# Altium footprint library Sensor's & Driver's.PcbLib: 17 footprints (part 1 of 2)
Each footprint in its own frame and in the unit in brackets; x right, y up, seen from the top. Pads: shape width x height; smd on the part's side, far side on the other; paste and mask are expansions set on the pad; w line width, h text height; cw(c..) or ccw(c..) is an arc to the next point about the centre after c.
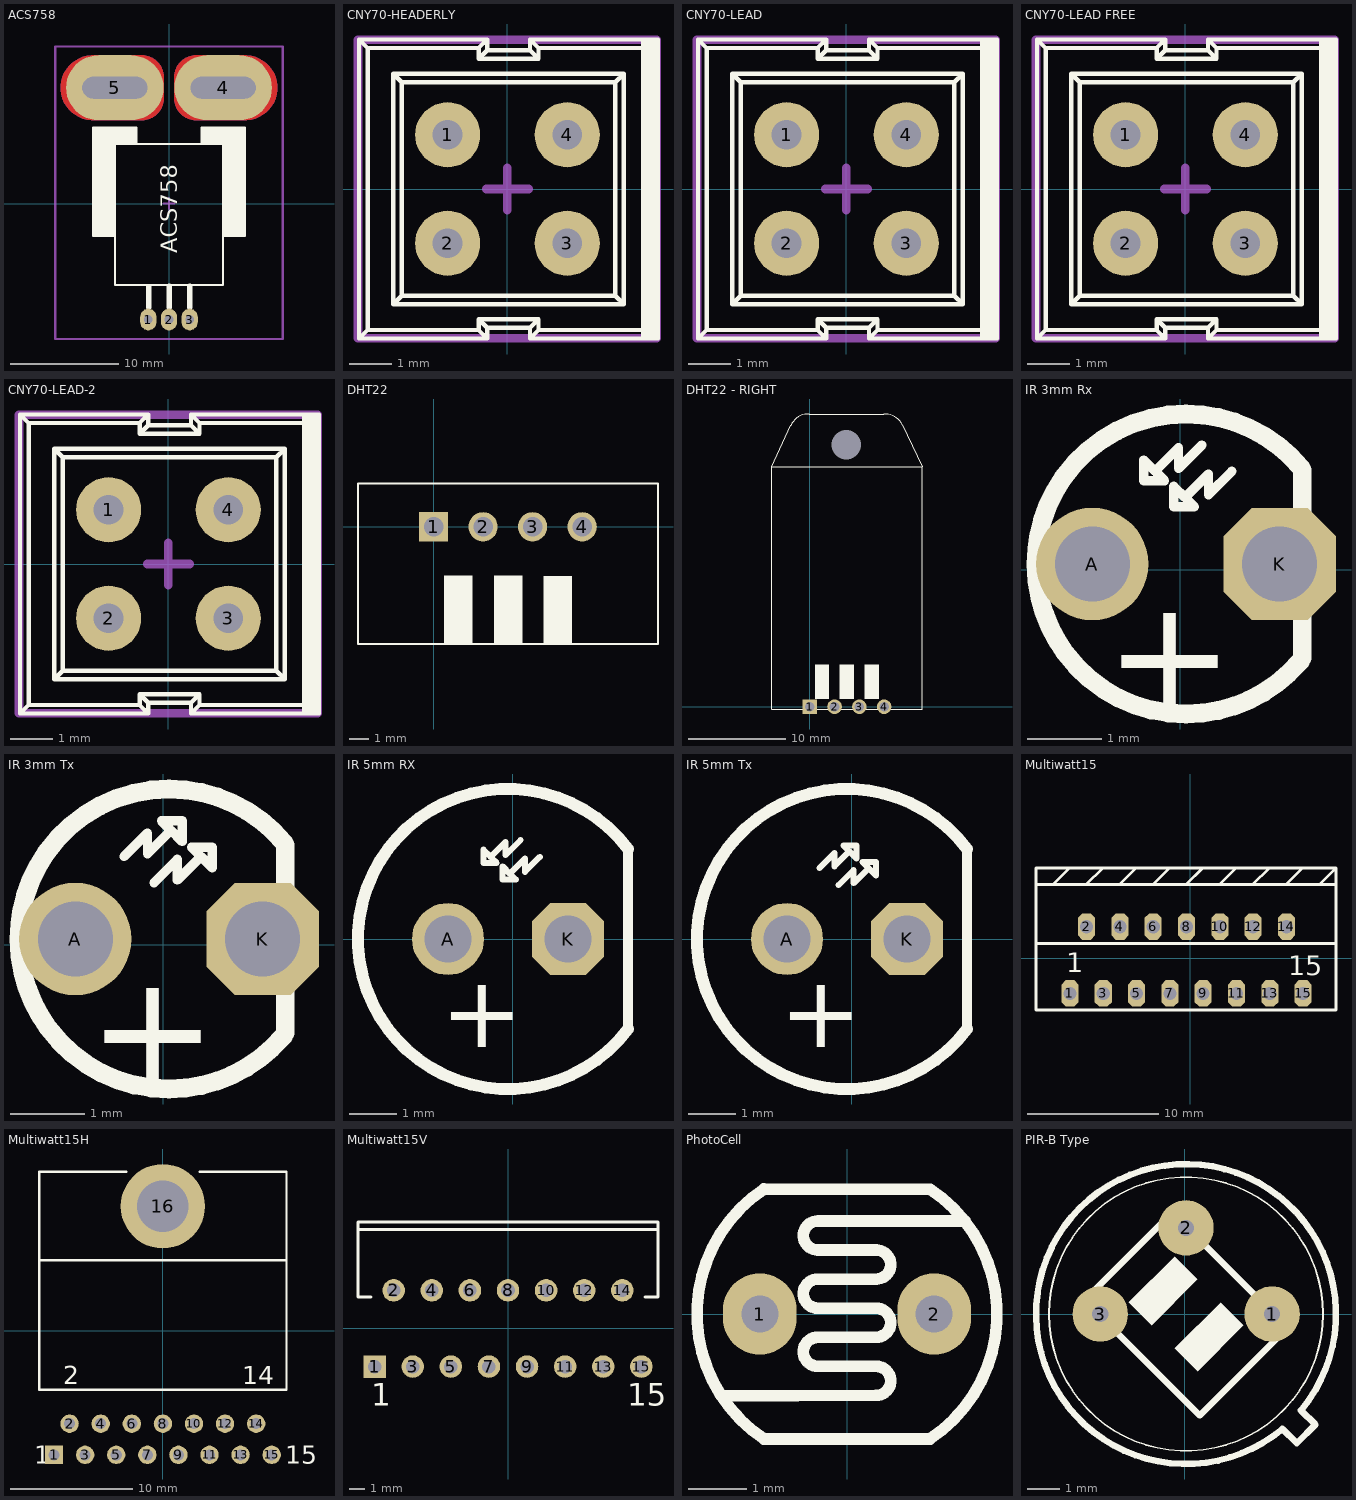
[diagram p0: the footprints below, top view; thin cyan lines are the x and y axes]

## ACS758 [mm]
height 7
pads (5):
  oval 1.5x2 hole 0.8: 1(-1.91,-10.7) 2(0,-10.7) 3(1.91,-10.7)
  oval 9x6 hole 2 slot 6 at 0 deg: 4(5,10.7) 5(-5,10.7)
Top Layer:
  region: -7,13.7 -7.197,13.7 -7.587,13.649 -7.966,13.547 -8.33,13.396 -8.67,13.2 -8.982,12.96 -9.26,12.682 -9.5,12.37 -9.696,12.03 -9.847,11.666 -9.949,11.287 -10,10.897 -10,10.7 -10,10.503 -9.949,10.113 -9.847,9.734 -9.696,9.37 -9.5,9.03 -9.26,8.718 -8.982,8.44 -8.67,8.2 -8.33,8.004 -7.966,7.853 -7.587,7.751 -7.197,7.7 -7,7.7 -2.5,7.7 -2.303,7.7 -1.917,7.777 -1.553,7.928 -1.225,8.146 -0.946,8.425 -0.728,8.753 -0.577,9.117 -0.5,9.503 -0.5,9.7 -0.5,11.7 -0.5,11.897 -0.577,12.283 -0.728,12.647 -0.946,12.975 -1.225,13.254 -1.553,13.472 -1.917,13.623 -2.303,13.7 -2.5,13.7
  region: 7,13.7 7.197,13.7 7.587,13.649 7.966,13.547 8.33,13.396 8.67,13.2 8.982,12.96 9.26,12.682 9.5,12.37 9.696,12.03 9.847,11.666 9.949,11.287 10,10.897 10,10.7 10,10.503 9.949,10.113 9.847,9.734 9.696,9.37 9.5,9.03 9.26,8.718 8.982,8.44 8.67,8.2 8.33,8.004 7.966,7.853 7.587,7.751 7.197,7.7 7,7.7 2.5,7.7 2.303,7.7 1.917,7.777 1.553,7.928 1.225,8.146 0.946,8.425 0.728,8.753 0.577,9.117 0.5,9.503 0.5,9.7 0.5,11.7 0.5,11.897 0.577,12.283 0.728,12.647 0.946,12.975 1.225,13.254 1.553,13.472 1.917,13.623 2.303,13.7 2.5,13.7
Bottom Layer:
  region: -7,13.7 -7.197,13.7 -7.587,13.649 -7.966,13.547 -8.33,13.396 -8.67,13.2 -8.982,12.96 -9.26,12.682 -9.5,12.37 -9.696,12.03 -9.847,11.666 -9.949,11.287 -10,10.897 -10,10.7 -10,10.503 -9.949,10.113 -9.847,9.734 -9.696,9.37 -9.5,9.03 -9.26,8.718 -8.982,8.44 -8.67,8.2 -8.33,8.004 -7.966,7.853 -7.587,7.751 -7.197,7.7 -7,7.7 -2.5,7.7 -2.303,7.7 -1.917,7.777 -1.553,7.928 -1.225,8.146 -0.946,8.425 -0.728,8.753 -0.577,9.117 -0.5,9.503 -0.5,9.7 -0.5,11.7 -0.5,11.897 -0.577,12.283 -0.728,12.647 -0.946,12.975 -1.225,13.254 -1.553,13.472 -1.917,13.623 -2.303,13.7 -2.5,13.7
  region: 7,13.7 7.197,13.7 7.587,13.649 7.966,13.547 8.33,13.396 8.67,13.2 8.982,12.96 9.26,12.682 9.5,12.37 9.696,12.03 9.847,11.666 9.949,11.287 10,10.897 10,10.7 10,10.503 9.949,10.113 9.847,9.734 9.696,9.37 9.5,9.03 9.26,8.718 8.982,8.44 8.67,8.2 8.33,8.004 7.966,7.853 7.587,7.751 7.197,7.7 7,7.7 2.5,7.7 2.303,7.7 1.917,7.777 1.553,7.928 1.225,8.146 0.946,8.425 0.728,8.753 0.577,9.117 0.5,9.503 0.5,9.7 0.5,11.7 0.5,11.897 0.577,12.283 0.728,12.647 0.946,12.975 1.225,13.254 1.553,13.472 1.917,13.623 2.303,13.7 2.5,13.7
Top Overlay:
  rectangle: 3,5.588 7,7.112
  rectangle: 5,-3 7,5.588
  region: -5,5.588 -7,5.588 -7,-3 -5,-3
  region: -3,7.112 -7,7.112 -7,5.588 -3,5.588
  lines w0.2: -7,7 -7,-3 -5,-3 ; -3,5.5 -3,7 ; 3,5.5 3,7 ; 5,-3 7,-3 7,7 ; -5,-7.5 5,-7.5 5,5.5 -5,5.5 -5,-7.5
  lines w0.508: -1.892,-9.575 -1.892,-7.677 ; 0.013,-9.55 0.013,-7.652 ; 1.893,-9.55 1.893,-7.652
  text "ACS758" at 0.762,-4.572 h1.52
Mechanical 15:
  lines w0.2: -0.5,0 0.5,0 ; 0,-0.5 0,0.5 ; -10.5,-12.5 -10.5,14.5 10.5,14.5 10.5,-12.5 -10.5,-12.5
3D body "Allegro PFF.STEP": height 7, standoff -3.52, extent -7,-11.086 7,11.5

## CNY70-HEADERLY [mm] "Dimensions (L x W x H in mm): 7 x 7 x 6  • Peak operating distance: < 0.5 mm DESIGNER ABBAS BASEREH"
height 6
pads (4):
  round 1.524 hole 0.7: 1(-1.4,1.27) 2(-1.4,-1.27) 3(1.4,-1.27) 4(1.4,1.27)
Top Overlay:
  rectangle: 3.125,-3.5 3.525,3.5
  lines w0.1: -3.475,-3.5 -0.475,-3.5 ; -3.475,-3.5 -3.275,-3.3 ; -3.475,-3.5 -3.475,3.5 ; -3.475,3.5 -3.275,3.3 ; -3.475,3.5 -0.475,3.5 ; -3.275,-3.3 -0.675,-3.3 ; -3.275,-3.3 -3.275,3.3 ; -3.275,3.3 -0.675,3.3 ; -2.675,-2.7 -2.475,-2.5 ; -2.675,-2.7 -2.675,2.7 ; -2.675,-2.7 2.725,-2.7 ; -2.675,2.7 -2.475,2.5 ; -2.675,2.7 2.725,2.7 ; -2.475,-2.5 -2.475,2.5 ; -2.475,-2.5 2.525,-2.5 ; -2.475,2.5 2.525,2.5 ; -0.675,-3.3 -0.675,-3.05 ; -0.675,-3.3 -0.475,-3.5 ; -0.675,-3.05 0.725,-3.05 ; -0.675,-3.05 -0.475,-3.25 ; -0.675,3.05 0.725,3.05 ; -0.675,3.05 -0.675,3.3 ; -0.675,3.05 -0.475,3.25 ; -0.675,3.3 -0.475,3.5 ; -0.475,-3.5 -0.475,-3.25 ; -0.475,-3.25 0.525,-3.25 ; -0.475,3.25 0.525,3.25 ; -0.475,3.25 -0.475,3.5 ; 0.525,-3.5 3.525,-3.5 ; 0.525,-3.5 0.725,-3.3 ; 0.525,-3.5 0.525,-3.25 ; 0.525,-3.25 0.725,-3.05 ; 0.525,3.25 0.725,3.05 ; 0.525,3.25 0.525,3.5 ; 0.525,3.5 0.725,3.3 ; 0.525,3.5 3.525,3.5 ; 0.725,-3.3 3.325,-3.3 ; 0.725,-3.3 0.725,-3.05 ; 0.725,3.05 0.725,3.3 ; 0.725,3.3 3.325,3.3 ; 2.525,-2.5 2.725,-2.7 ; 2.525,-2.5 2.525,2.5 ; 2.525,2.5 2.725,2.7 ; 2.725,-2.7 2.725,2.7 ; 3.325,-3.3 3.525,-3.5 ; 3.325,-3.3 3.325,3.3 ; 3.325,3.3 3.525,3.5 ; 3.525,-3.5 3.525,3.5
Mechanical 15:
  lines w0.2: -0.5,0 0.5,0 ; 0,-0.5 0,0.5 ; -3.5,-3.5 -3.5,3.5 3.5,3.5 3.5,-3.5 -3.5,-3.5
3D body "User Library-cny70-2.STEP": height 11.5, standoff -2.5, extent -3.55,-3.5 3.45,3.5

## CNY70-LEAD [mm] "Dimensions (L x W x H in mm): 7 x 7 x 6  • Peak operating distance: < 0.5 mm DESIGNER ABBAS BASEREH"
height 6
pads (4):
  round 1.524 hole 0.7: 1(-1.4,1.27) 2(-1.4,-1.27) 3(1.4,-1.27) 4(1.4,1.27)
Top Overlay:
  rectangle: 3.125,-3.5 3.525,3.5
  lines w0.1: -3.475,-3.5 -3.475,3.5 ; -3.475,-3.5 -3.275,-3.3 ; -3.475,-3.5 -0.475,-3.5 ; -3.475,3.5 -0.475,3.5 ; -3.475,3.5 -3.275,3.3 ; -3.275,-3.3 -3.275,3.3 ; -3.275,-3.3 -0.675,-3.3 ; -3.275,3.3 -0.675,3.3 ; -2.675,-2.7 2.725,-2.7 ; -2.675,-2.7 -2.675,2.7 ; -2.675,-2.7 -2.475,-2.5 ; -2.675,2.7 2.725,2.7 ; -2.675,2.7 -2.475,2.5 ; -2.475,-2.5 2.525,-2.5 ; -2.475,-2.5 -2.475,2.5 ; -2.475,2.5 2.525,2.5 ; -0.675,-3.3 -0.475,-3.5 ; -0.675,-3.3 -0.675,-3.05 ; -0.675,-3.05 -0.475,-3.25 ; -0.675,-3.05 0.725,-3.05 ; -0.675,3.05 -0.475,3.25 ; -0.675,3.05 -0.675,3.3 ; -0.675,3.05 0.725,3.05 ; -0.675,3.3 -0.475,3.5 ; -0.475,-3.5 -0.475,-3.25 ; -0.475,-3.25 0.525,-3.25 ; -0.475,3.25 -0.475,3.5 ; -0.475,3.25 0.525,3.25 ; 0.525,-3.5 0.525,-3.25 ; 0.525,-3.5 0.725,-3.3 ; 0.525,-3.5 3.525,-3.5 ; 0.525,-3.25 0.725,-3.05 ; 0.525,3.25 0.525,3.5 ; 0.525,3.25 0.725,3.05 ; 0.525,3.5 3.525,3.5 ; 0.525,3.5 0.725,3.3 ; 0.725,-3.3 0.725,-3.05 ; 0.725,-3.3 3.325,-3.3 ; 0.725,3.05 0.725,3.3 ; 0.725,3.3 3.325,3.3 ; 2.525,-2.5 2.525,2.5 ; 2.525,-2.5 2.725,-2.7 ; 2.525,2.5 2.725,2.7 ; 2.725,-2.7 2.725,2.7 ; 3.325,-3.3 3.325,3.3 ; 3.325,-3.3 3.525,-3.5 ; 3.325,3.3 3.525,3.5 ; 3.525,-3.5 3.525,3.5
Mechanical 15:
  lines w0.2: -0.5,0 0.5,0 ; 0,-0.5 0,0.5 ; -3.5,-3.5 3.5,-3.5 3.5,3.5 -3.5,3.5 -3.5,-3.5
3D body "SW3dPS-cny70-1.STEP": height 6.5, standoff -5.25, extent -3.5,-3.5 3.5,3.5

## CNY70-LEAD FREE [mm] "Dimensions (L x W x H in mm): 7 x 7 x 6  • Peak operating distance: < 0.5 mm DESIGNER ABBAS BASEREH"
height 6
pads (4):
  round 1.524 hole 0.7: 1(-1.4,1.27) 2(-1.4,-1.27) 3(1.4,-1.27) 4(1.4,1.27)
Top Overlay:
  rectangle: 3.125,-3.5 3.525,3.5
  lines w0.1: -3.475,-3.5 -0.475,-3.5 ; -3.475,-3.5 -3.275,-3.3 ; -3.475,-3.5 -3.475,3.5 ; -3.475,3.5 -3.275,3.3 ; -3.475,3.5 -0.475,3.5 ; -3.275,-3.3 -0.675,-3.3 ; -3.275,-3.3 -3.275,3.3 ; -3.275,3.3 -0.675,3.3 ; -2.675,-2.7 -2.475,-2.5 ; -2.675,-2.7 -2.675,2.7 ; -2.675,-2.7 2.725,-2.7 ; -2.675,2.7 -2.475,2.5 ; -2.675,2.7 2.725,2.7 ; -2.475,-2.5 -2.475,2.5 ; -2.475,-2.5 2.525,-2.5 ; -2.475,2.5 2.525,2.5 ; -0.675,-3.3 -0.675,-3.05 ; -0.675,-3.3 -0.475,-3.5 ; -0.675,-3.05 0.725,-3.05 ; -0.675,-3.05 -0.475,-3.25 ; -0.675,3.05 0.725,3.05 ; -0.675,3.05 -0.675,3.3 ; -0.675,3.05 -0.475,3.25 ; -0.675,3.3 -0.475,3.5 ; -0.475,-3.5 -0.475,-3.25 ; -0.475,-3.25 0.525,-3.25 ; -0.475,3.25 0.525,3.25 ; -0.475,3.25 -0.475,3.5 ; 0.525,-3.5 3.525,-3.5 ; 0.525,-3.5 0.725,-3.3 ; 0.525,-3.5 0.525,-3.25 ; 0.525,-3.25 0.725,-3.05 ; 0.525,3.25 0.725,3.05 ; 0.525,3.25 0.525,3.5 ; 0.525,3.5 0.725,3.3 ; 0.525,3.5 3.525,3.5 ; 0.725,-3.3 3.325,-3.3 ; 0.725,-3.3 0.725,-3.05 ; 0.725,3.05 0.725,3.3 ; 0.725,3.3 3.325,3.3 ; 2.525,-2.5 2.725,-2.7 ; 2.525,-2.5 2.525,2.5 ; 2.525,2.5 2.725,2.7 ; 2.725,-2.7 2.725,2.7 ; 3.325,-3.3 3.525,-3.5 ; 3.325,-3.3 3.325,3.3 ; 3.325,3.3 3.525,3.5 ; 3.525,-3.5 3.525,3.5
Mechanical 15:
  lines w0.2: -0.5,0 0.5,0 ; 0,-0.5 0,0.5 ; -3.5,-3.5 -3.5,3.5 3.5,3.5 3.5,-3.5 -3.5,-3.5
3D body "CNY70.STEP": height 6.01, standoff 0.01, extent -3.475,-3.5 3.525,3.5

## CNY70-LEAD-2 [mm] "Dimensions (L x W x H in mm): 7 x 7 x 6  • Peak operating distance: < 0.5 mm DESIGNER ABBAS BASEREH"
height 6
pads (4):
  round 1.524 hole 0.7: 1(-1.4,1.27) 2(-1.4,-1.27) 3(1.4,-1.27) 4(1.4,1.27)
Top Overlay:
  rectangle: 3.125,-3.5 3.525,3.5
  lines w0.1: -3.475,-3.5 -0.475,-3.5 ; -3.475,-3.5 -3.275,-3.3 ; -3.475,-3.5 -3.475,3.5 ; -3.475,3.5 -3.275,3.3 ; -3.475,3.5 -0.475,3.5 ; -3.275,-3.3 -0.675,-3.3 ; -3.275,-3.3 -3.275,3.3 ; -3.275,3.3 -0.675,3.3 ; -2.675,-2.7 -2.475,-2.5 ; -2.675,-2.7 -2.675,2.7 ; -2.675,-2.7 2.725,-2.7 ; -2.675,2.7 -2.475,2.5 ; -2.675,2.7 2.725,2.7 ; -2.475,-2.5 -2.475,2.5 ; -2.475,-2.5 2.525,-2.5 ; -2.475,2.5 2.525,2.5 ; -0.675,-3.3 -0.675,-3.05 ; -0.675,-3.3 -0.475,-3.5 ; -0.675,-3.05 0.725,-3.05 ; -0.675,-3.05 -0.475,-3.25 ; -0.675,3.05 0.725,3.05 ; -0.675,3.05 -0.675,3.3 ; -0.675,3.05 -0.475,3.25 ; -0.675,3.3 -0.475,3.5 ; -0.475,-3.5 -0.475,-3.25 ; -0.475,-3.25 0.525,-3.25 ; -0.475,3.25 0.525,3.25 ; -0.475,3.25 -0.475,3.5 ; 0.525,-3.5 3.525,-3.5 ; 0.525,-3.5 0.725,-3.3 ; 0.525,-3.5 0.525,-3.25 ; 0.525,-3.25 0.725,-3.05 ; 0.525,3.25 0.725,3.05 ; 0.525,3.25 0.525,3.5 ; 0.525,3.5 0.725,3.3 ; 0.525,3.5 3.525,3.5 ; 0.725,-3.3 3.325,-3.3 ; 0.725,-3.3 0.725,-3.05 ; 0.725,3.05 0.725,3.3 ; 0.725,3.3 3.325,3.3 ; 2.525,-2.5 2.725,-2.7 ; 2.525,-2.5 2.525,2.5 ; 2.525,2.5 2.725,2.7 ; 2.725,-2.7 2.725,2.7 ; 3.325,-3.3 3.525,-3.5 ; 3.325,-3.3 3.325,3.3 ; 3.325,3.3 3.525,3.5 ; 3.525,-3.5 3.525,3.5
Mechanical 15:
  lines w0.2: -0.5,0 0.5,0 ; 0,-0.5 0,0.5 ; -3.5,-3.5 -3.5,3.5 3.5,3.5 3.5,-3.5 -3.5,-3.5
3D body "CNY70.SLDPRT": height 6, standoff -6.75, extent -3.15,-3.15 3.15,3.15

## DHT22 [mm] "Temperature & Humidity Sensor"
pads (4):
  rect 1.5x1.5 hole 1: 1(0,0)
  round 1.5 hole 1: 2(2.54,0) 3(5.08,0) 4(7.62,0)
Top Overlay:
  rectangle: 0.53,-6.03 1.99,-2.5
  rectangle: 3.09,-6.03 4.55,-2.5
  rectangle: 5.63,-6.05 7.09,-2.52
  lines w0.1: -3.878,2.22 11.512,2.22 11.512,-6.01 ; -3.878,2.23 -3.878,-6.02 11.502,-6.02
3D body "User Library-DHT22.step": height 29.1, standoff -4.5, extent -3.728,-5.91 11.372,2.1

## DHT22 - RIGHT [mm] "Temperature & Humidity Sensor"
pads (5):
  round 0 hole 3: 0(3.73,26.84)
  rect 1.5x1.5 hole 1: 1(0,0)
  round 1.5 hole 1: 2(2.54,0) 3(5.08,0) 4(7.62,0)
Top Overlay:
  rectangle: 5.63,0.79 7.09,4.32
  rectangle: 3.07,0.79 4.53,4.32
  rectangle: 0.53,0.79 1.99,4.32
  lines w0.1: -3.88,24.61 -1.94,28.82 ; -1.942,28.812 cw(c-0.165,28.065) -0.07,29.99 7.59,29.99 ; 7.58,29.99 cw(c7.684,27.978) 9.48,28.89 ; 9.48,28.88 11.52,24.578 11.52,-0.28 -3.89,-0.28 -3.89,24.6 11.5,24.6
3D body "User Library-DHT22_HOR.step": height 8.01, standoff -1.25, extent -3.74,-0.17 11.36,29.93

## IR 3mm Rx [mil]
pads (2):
  round 60 hole 40: A(-47,3)
  oct 60x60 hole 40: K(53,3)
Top Overlay:
  lines w5: -12.5,51.5 -8.5,47.5 -19.5,47.5 -19.5,58.5 -13.5,52.5 -1,65 -1,54 11.5,66.5 ; 3.5,37.5 7.5,33.5 -3.5,33.5 -3.5,44.5 2.5,38.5 15,51 15,40 27.5,52.5
  lines w10: -67.59,40.65 cw(c3,3) 3,83 cw(c3,3) 64.46,54.22 ; -67.44,40.93 ccw(c3,3) -77,3 ccw(c3,3) -65.13,-38.92 ; -66.46,-36.69 ccw(c3,3) 3,-77 ccw(c3,3) 64.07,-48.68 ; 65,-47 65,53
  text "+" at -40,-75 h60
3D body "SW3DPS-LED DIP 3MM-DEFAULT.STEP": height 255.91, standoff -78.74, extent -72.9,-74 64.9,75.61

## IR 3mm Tx [mil]
pads (2):
  round 60 hole 40: A(-47,3)
  oct 60x60 hole 40: K(53,3)
Top Overlay:
  lines w5: -21,47 -8.5,59.5 -8.5,48.5 4,61 10,55 10,66 -1,66 3,62 ; -5,33 7.5,45.5 7.5,34.5 20,47 26,41 26,52 15,52 19,48
  lines w10: -67.59,40.65 cw(c3,3) 3,83 cw(c3,3) 64.46,54.22 ; -67.44,40.93 ccw(c3,3) -77,3 ccw(c3,3) -65.13,-38.92 ; -66.46,-36.69 ccw(c3,3) 3,-77 ccw(c3,3) 64.07,-48.68 ; 65,-47 65,53
  text "+" at -40,-75 h60
3D body "SW3DPS-LED DIP 3MM-DEFAULT.STEP": height 255.91, standoff -78.74, extent -72.9,-74 64.9,75.61

## IR 5mm RX [mil]
height 472.44
pads (2):
  round 60 hole 39.37: A(-54,0)
  oct 60x60 hole 39.37: K(46,0)
Top Overlay:
  lines w5: -17.5,67.5 -13.5,63.5 -24.5,63.5 -24.5,74.5 -18.5,68.5 -6,81 -6,70 6.5,82.5 ; -1.5,53.5 2.5,49.5 -8.5,49.5 -8.5,60.5 -2.5,54.5 10,67 10,56 22.5,68.5
  lines w8: 96,-75 96,75
  lines w10: 96,-75 cw(c-4,0) 96,75
  text "+" at -60,-90 h60
3D body "LED-short.stp": height 519.68, standoff -66.93, extent -120.17,-113.17 92.43,115.17

## IR 5mm Tx [mil]
height 472.44
pads (2):
  round 60 hole 39.37: A(-54,0)
  oct 60x60 hole 39.37: K(46,0)
Top Overlay:
  lines w5: -27,59 -14.5,71.5 -14.5,60.5 -2,73 4,67 4,78 -7,78 -3,74 ; -11,45 1.5,57.5 1.5,46.5 14,59 20,53 20,64 9,64 13,60
  lines w8: 96,-75 96,75
  lines w10: 96,-75 cw(c-4,0) 96,75
  text "+" at -60,-90 h60
3D body "LED-short.stp": height 519.68, standoff -66.93, extent -120.17,-113.17 92.43,115.17

## Multiwatt15 [mm]
pads (15):
  oct 1.3x2 hole 1: 1(-9.164,-2.668) 2(-7.894,2.412) 3(-6.624,-2.668) 4(-5.354,2.412) 5(-4.084,-2.668) 6(-2.814,2.412) 7(-1.544,-2.668) 8(-0.274,2.412) 9(0.996,-2.668) 10(2.266,2.412) 11(3.536,-2.668) 12(4.806,2.412) 13(6.076,-2.668) 14(7.346,2.412) 15(8.616,-2.668)
Top Overlay:
  lines w0.203: -11.745,1.135 11.115,1.135 ; -11.735,5.625 11.125,5.625 ; -10.465,5.625 -9.195,6.895 ; -7.925,5.625 -6.655,6.895 ; -5.385,5.625 -4.115,6.895 ; -2.845,5.625 -1.575,6.895 ; -0.305,5.625 0.965,6.895 ; 2.235,5.625 3.505,6.895 ; 4.775,5.625 6.045,6.895 ; 7.315,5.625 8.585,6.895 ; 9.855,5.625 11.125,6.895 ; 11.125,6.895 -11.75,6.895 -11.75,-3.945 11.125,-3.945 11.125,6.895
  text "1" at -9.45,-1.075 h1.5
  text "15" at 7.475,-1.3 h1.5
3D body "User Library-Multiwatt15V.STEP": height 20.8, standoff -1.5, extent -10.1,-2.9 9.5,6.99

## Multiwatt15H [mm] "TO, Thru-Hole, Horizontal, Heatsink Mounted; 15 Bent Staggered Leads; Pitch 1.27 mm"
height 5
pads (16):
  rect 1.5x1.5 hole 0.9: 1(-8.89,-10.155)
  round 1.5 hole 0.9: 2(-7.62,-7.615) 3(-6.35,-10.155) 4(-5.08,-7.615) 5(-3.81,-10.155) 6(-2.54,-7.615) 7(-1.27,-10.155) 8(0,-7.615) 9(1.27,-10.155) 10(2.54,-7.615) 11(3.81,-10.155) 12(5.08,-7.615) 13(6.35,-10.155) 14(7.62,-7.615) 15(8.89,-10.155)
  round 6.9 hole 4.2: 16(0,10.155)
Top Overlay:
  lines w0.2: -10.1,5.755 10.1,5.755 ; -3,12.955 -10.1,12.955 -10.1,-4.845 10.1,-4.845 10.1,12.955 3,12.955
  text "1" at -10.515,-10.905 h1.5
  text "15" at 10.015,-10.905 h1.5
  text "14" at 6.495,-4.37 h1.5
  text "2" at -8.12,-4.37 h1.5
3D body "User Library-Multiwatt15H.step": height 5, standoff -1.5, extent -9.802,-10.419 9.798,13.181

## Multiwatt15V [mm] "TO, Thru-Hole, Vertical, Heatsink Mounted; 15 Bent Staggered Leads; Pitch 1.27 mm"
height 21
pads (15):
  rect 1.5x1.5 hole 0.9: 1(-8.89,-2.54)
  round 1.5 hole 0.9: 2(-7.62,2.54) 3(-6.35,-2.54) 4(-5.08,2.54) 5(-3.81,-2.54) 6(-2.54,2.54) 7(-1.27,-2.54) 8(0,2.54) 9(1.27,-2.54) 10(2.54,2.54) 11(3.81,-2.54) 12(5.08,2.54) 13(6.35,-2.54) 14(7.62,2.54) 15(8.89,-2.54)
Top Overlay:
  lines w0.2: -10,6.59 10,6.59 ; -9.144,2.09 -10,2.09 -10,7.09 10,7.09 10,2.09 9.144,2.09
  text "15" at 7.94,-5.165 h1.5
  text "1" at -9.12,-5.165 h1.5
3D body "User Library-Multiwatt15V.step": height 21.3, standoff -1, extent -9.8,-2.81 9.8,7.08

## PhotoCell [mm]
pads (2):
  oval 1.27x1.397 hole 0.635: 1(-1.5,0) 2(1.5,0)
Top Overlay:
  lines w0.2: -2.16,-1.41 0.5,-1.4 ccw(c0.502,-1.15) 0.501,-0.9 -0.5,-0.9 cw(c-0.502,-0.65) -0.5,-0.4 0.5,-0.4 ccw(c0.502,-0.15) 0.501,0.1 -0.5,0.1 cw(c-0.502,0.35) -0.5,0.6 0.5,0.6 ccw(c0.502,0.85) 0.501,1.1 -0.499,1.1 ; -1.43,-2.15 1.429,-2.15 ; -1.43,2.15 1.429,2.148 cw(c0,0) 1.428,-2.149 ; -1.429,-2.148 cw(c0,0) -1.429,2.148 ; -0.5,1.1 cw(c-0.501,1.35) -0.499,1.6 2.03,1.6
3D body "LDR.STEP": height 2.44, standoff -2.3, extent -2.605,-2.159 2.605,2.141

## PIR-B Type [mm] "For D203B and D204B PIR Sensors"
height 4.7
pads (3):
  round 1.7 hole 0.5: 1(2.68,0) 2(0.04,2.64) 3(-2.59,0)
Top Overlay:
  circle w0.05: c0.04,0 r4.2
  region: 1.105,0.358 -0.309,-1.056 0.398,-1.763 1.812,-0.349
  region: -0.309,1.772 -1.723,0.358 -1.016,-0.349 0.398,1.065
  lines w0.2: -3.071,0.424 -0.384,3.111 3.151,-0.424 0.464,-3.111 -3.071,0.424 ; 2.997,-3.524 cw(c0.04,0) 3.564,-2.957 4.01,-3.39 3.44,-3.96 2.997,-3.524